# Altium schematic symbol library SCH - POWER - MODULE - MURATA MEJ1 SINGLE.SCHLIB: 1 symbol
Pins are listed as number, name and electrical type; pins without a type are passive.

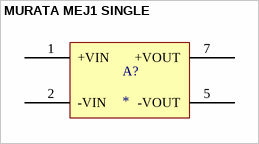
[diagram p0: symbol MURATA MEJ1 SINGLE]

## MURATA MEJ1 SINGLE
designator A?
pins: 1 +VIN, 2 -VIN, 5 -VOUT, 7 +VOUT